# Altium schematic symbol library Communication.SchLib: 6 symbols
Pins are listed as number, name and electrical type; pins without a type are passive.

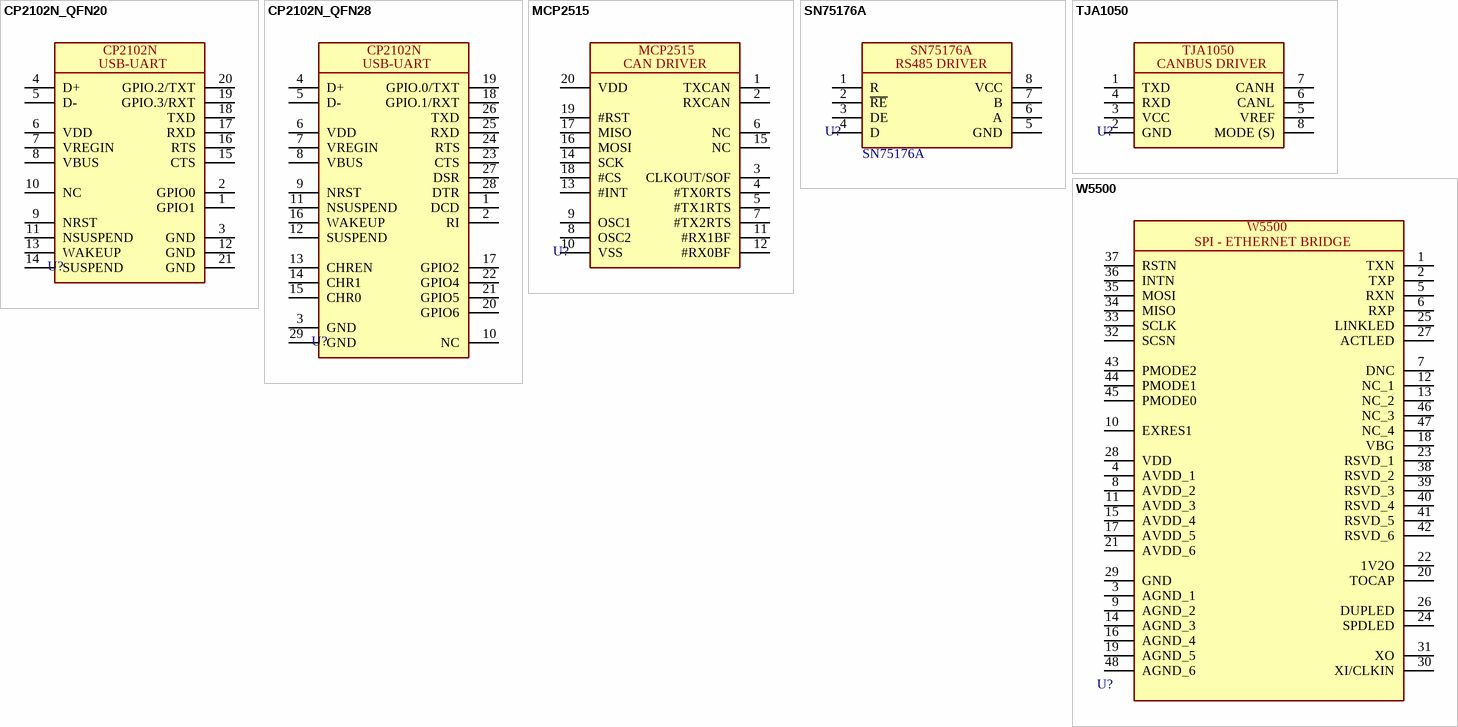
[diagram p0: symbols CP2102N_QFN20 to W5500]

## CP2102N_QFN20
designator U?
-40℃~+85℃ 1.3uA 13.7mA 3Mbps 3V~3.6V USB 2.0 USB to UART QFN-20-EP(3x3) USB Converters ROHS; Manufacturer 1: SKYWORKS/SILICON LABS; Manufacturer Part Number 1: *; Package: QFN-20-EP(3x3); Supplier 1: *; Supplier Part Number 1: *
footprint CP2102 QFN20
pins: 1 GPIO1, 2 GPIO0, 3 GND, 4 D+, 5 D-, 6 VDD, 7 VREGIN, 8 VBUS, 9 NRST, 10 NC, 11 NSUSPEND, 12 GND, 13 WAKEUP, 14 SUSPEND, 15 CTS, 16 RTS, 17 RXD, 18 TXD, 19 GPIO.3/RXT, 20 GPIO.2/TXT, 21 GND
text: CP2102N; USB-UART

## CP2102N_QFN28
designator U?
-40℃~+85℃ 1.3uA 13.7mA 3Mbps 3V~3.6V USB 2.0 USB to UART QFN-28-EP(5x5) USB Converters ROHS; Manufacturer 1: SKYWORKS/SILICON LABS; Manufacturer Part Number 1: *; Package: QFN-28-EP(5x5); Supplier 1: *; Supplier Part Number 1: *
footprint CP2102 QFN28
pins: 1 DCD, 2 RI, 3 GND, 4 D+, 5 D-, 6 VDD, 7 VREGIN, 8 VBUS, 9 NRST, 10 NC, 11 NSUSPEND, 12 SUSPEND, 13 CHREN, 14 CHR1, 15 CHR0, 16 WAKEUP, 17 GPIO2, 18 GPIO.1/RXT, 19 GPIO.0/TXT, 20 GPIO6, 21 GPIO5, 22 GPIO4, 23 CTS, 24 RTS, 25 RXD, 26 TXD, 27 DSR, 28 DTR, 29 GND
text: CP2102N; USB-UART

## MCP2515
designator U?
CAN Interface IC; Manufacturer 1: *; Manufacturer Part Number 1: *; Package: *; Supplier 1: *; Supplier Part Number 1: *
footprint MCP2515-ST
pins: 1 TXCAN, 2 RXCAN, 3 CLKOUT/SOF, 4 #TX0RTS, 5 #TX1RTS, 6 NC, 7 #TX2RTS, 8 OSC2, 9 OSC1, 10 VSS, 11 #RX1BF, 12 #RX0BF, 13 #INT, 14 SCK, 15 NC, 16 MOSI, 17 MISO, 18 #CS, 19 #RST, 20 VDD
text: CAN DRIVER

## SN75176A
designator U?  value SN75176A
RS485/422 Driver IC; Manufacturer 1: *; Manufacturer Part Number 1: *
footprint SN75176A
pins: 1 R, 2 ~{RE}, 3 DE, 4 D, 5 GND, 6 A, 7 B, 8 VCC
text: RS485 DRIVER

## TJA1050
designator U?
CAN Transceiver IC; Manufacturer 1: *; Manufacturer Part Number 1: *; Package: *; Supplier 1: *; Supplier Part Number 1: *
footprint TJA1050T (SOIC, 8-Leads, Body 4.90x3.90mm, Pitch 1.27mm, IPC Low Density)
pins: 1 TXD, 2 GND, 3 VCC, 4 RXD, 5 VREF, 6 CANL, 7 CANH, 8 MODE (S)
text: CANBUS DRIVER

## W5500
designator U?  value W5500
Ethernet Controller 10/100 Base-T/TX PHY SPI Interface 48-LQFP (7x7); Manufacturer 1: Wiznet; Manufacturer Part Number 1: W5500
footprint TSQFP50P900X900X160-48M (TSQFP, 48-Leads, Body 7.00x7.00mm, Pitch 0.50mm, IPC Low Density)
pins: 1 TXN, 2 TXP, 3 AGND_1, 4 AVDD_1, 5 RXN, 6 RXP, 7 DNC, 8 AVDD_2, 9 AGND_2, 10 EXRES1, 11 AVDD_3, 12 NC_1, 13 NC_2, 14 AGND_3, 15 AVDD_4, 16 AGND_4, 17 AVDD_5, 18 VBG, 19 AGND_5, 20 TOCAP, 21 AVDD_6, 22 1V2O, 23 RSVD_1, 24 SPDLED, 25 LINKLED, 26 DUPLED, 27 ACTLED, 28 VDD, 29 GND, 30 XI/CLKIN, 31 XO, 32 SCSN, 33 SCLK, 34 MISO, 35 MOSI, 36 INTN, 37 RSTN, 38 RSVD_2, 39 RSVD_3, 40 RSVD_4, 41 RSVD_5, 42 RSVD_6, 43 PMODE2, 44 PMODE1, 45 PMODE0, 46 NC_3, 47 NC_4, 48 AGND_6
text: SPI - ETHERNET BRIDGE